# Altium footprint library EPSON Crystal Unit.PcbLib: 2 footprints
Each footprint in its own frame and in the unit in brackets; x right, y up, seen from the top. Pads: shape width x height; smd on the part's side, far side on the other; paste and mask are expansions set on the pad; w line width, h text height; cw(c..) or ccw(c..) is an arc to the next point about the centre after c.
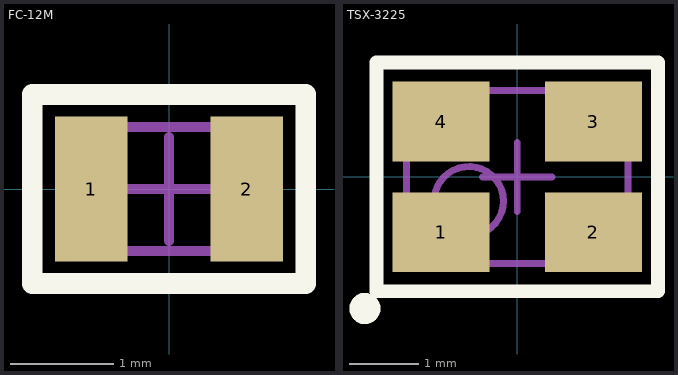
[diagram p0: the footprints below, top view; thin cyan lines are the x and y axes]

## FC-12M [mm] "Chip Crystal, SMD 2-Pin, Body 2.05x1.20mm, IPC Medium Density"
height 0.55
pads (2):
  rect 0.7x1.4 smd: 1(-0.75,0) 2(0.75,0)
Top Overlay:
  lines w0.2: -1.321,-0.914 -1.321,0.914 1.321,0.914 1.321,-0.914 -1.321,-0.914
Mechanical 13:
  lines w0.1: -1.025,-0.6 1.025,-0.6 1.025,0.6 -1.025,0.6 -1.025,-0.6
Mechanical 15:
  lines w0.05: -1.321,-0.914 1.321,-0.914 1.321,0.914 -1.321,0.914 -1.321,-0.914
  lines w0.1: -0.5,0 0.5,0 ; 0,-0.5 0,0.5
3D body: height 0.55, standoff 0, extent 0.575,-0.6 1.025,0.6
3D body: height 0.55, standoff 0, extent -1.025,-0.6 -0.575,0.6
3D body: height 0.55, standoff 0, extent -0.575,-0.6 0.575,0.6

## TSX-3225 [mm] "SMD 4-Pin, Body 3.20x2.50mm, Pitch 2.20mm/1.60mm, IPC Medium Density"
height 0.6
pads (4):
  rect 1.4x1.15 smd: 1(-1.1,-0.8) 2(1.1,-0.8) 3(1.1,0.8) 4(-1.1,0.8)
Top Overlay:
  circle w0.25: c-2.2,-1.9 r0.1
  lines w0.2: -2.032,-1.651 -2.032,1.651 2.032,1.651 2.032,-1.651 -2.032,-1.651
Mechanical 13:
  circle w0.1: c-0.7,-0.35 r0.5
  lines w0.1: -1.6,-1.25 1.6,-1.25 1.6,1.25 -1.6,1.25 -1.6,-1.25
Mechanical 15:
  lines w0.05: -2.032,-1.651 2.032,-1.651 2.032,1.651 -2.032,1.651 -2.032,-1.651
  lines w0.1: -0.5,0 0.5,0 ; 0,-0.5 0,0.5
3D body: height 0.6, standoff 0.01, extent -1.6,-1.25 1.6,1.25